# Altium footprint library SIGFOX-PCB-RULER.PcbLib: 49 footprints (part 3 of 4)
Each footprint in its own frame and in the unit in brackets; x right, y up, seen from the top. Pads: shape width x height; smd on the part's side, far side on the other; paste and mask are expansions set on the pad; w line width, h text height; cw(c..) or ccw(c..) is an arc to the next point about the centre after c.
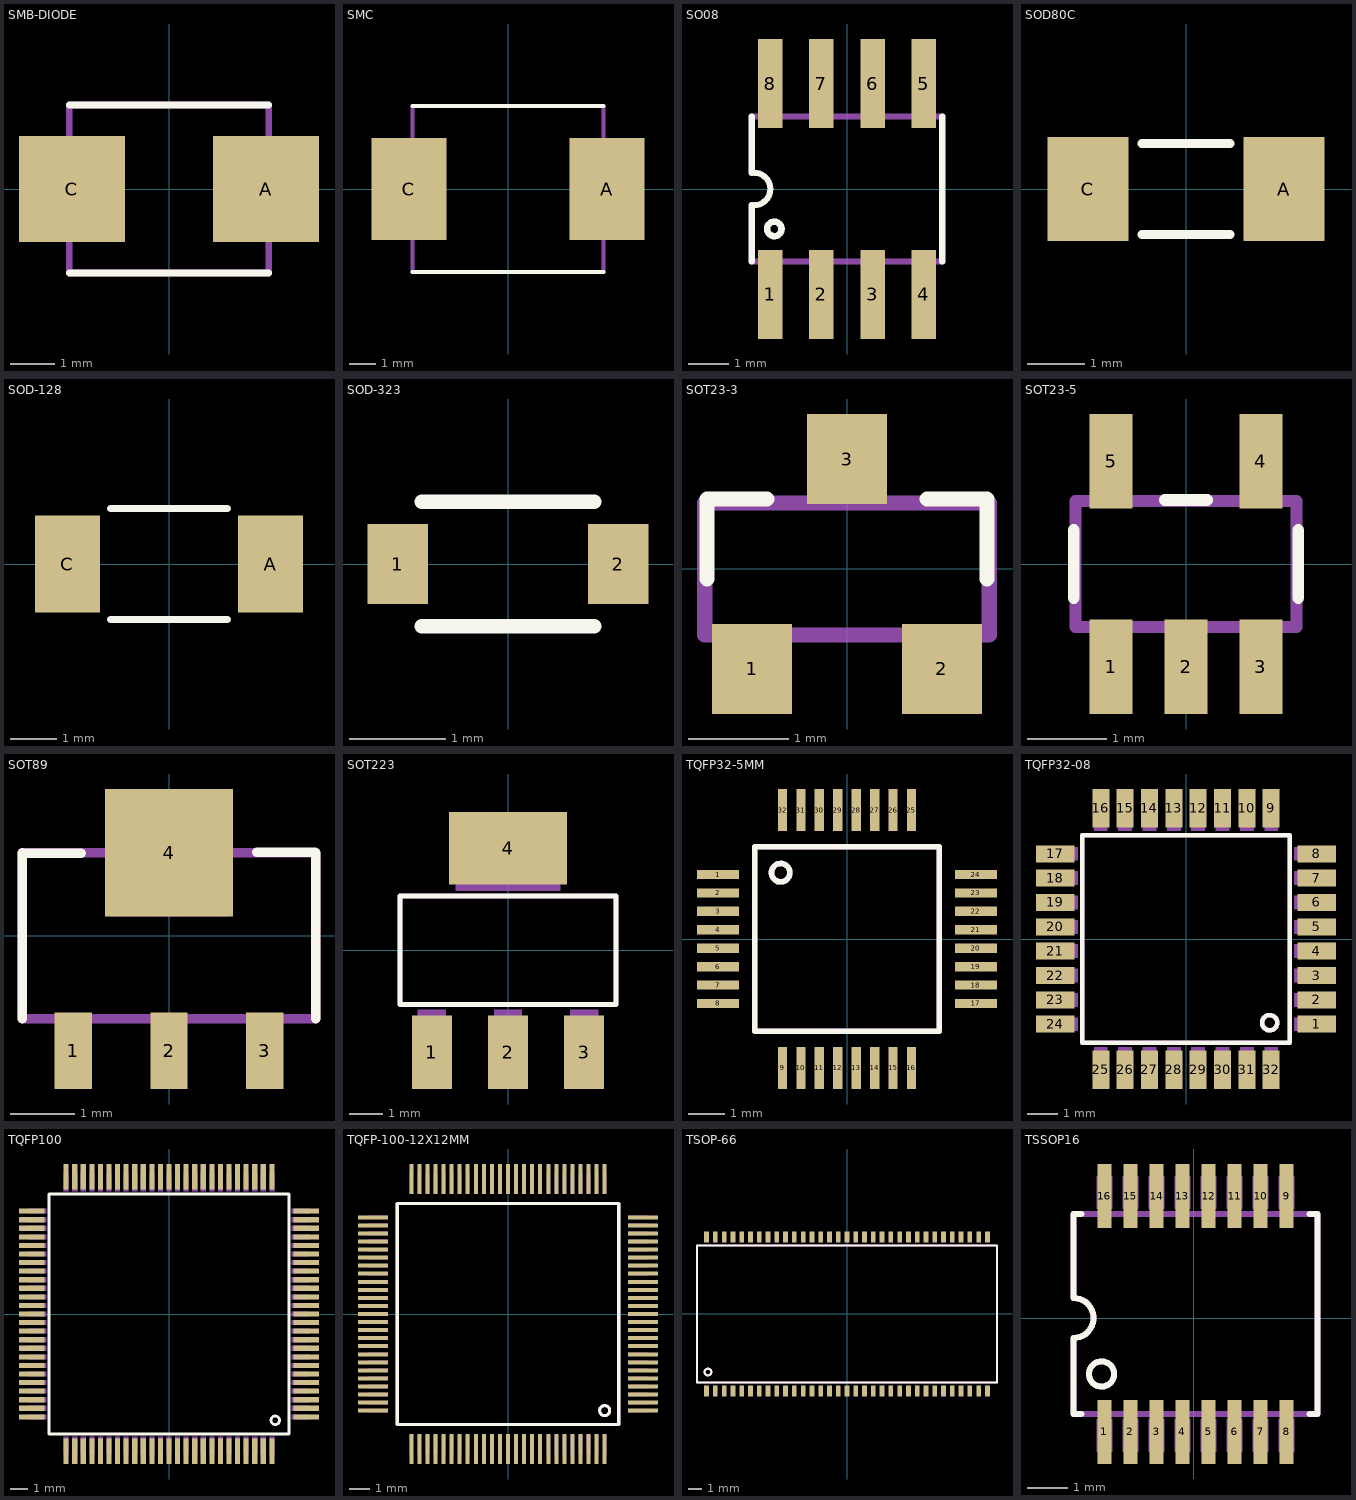
[diagram p2: the footprints below, top view; thin cyan lines are the x and y axes]

## SMB-DIODE [mm]
pads (2):
  rect 2.4x2.4 smd: A(2.2,0) C(-2.2,0)
Top Overlay:
  lines w0.152: -2.261,-1.905 2.261,-1.905 ; -2.261,1.905 2.261,1.905
Mechanical 13:
  rectangle: 2.261,-1.092 2.794,1.092
  rectangle: -2.794,-1.092 -2.261,1.092
  lines w0.152: -2.261,-1.905 2.261,-1.905 2.261,1.905 -2.261,1.905 -2.261,-1.905

## SMC [mm]
pads (2):
  rect 2.8x3.8 smd: A(3.7,0) C(-3.7,0)
Top Overlay:
  lines w0.152: -3.561,-3.105 3.561,-3.105 ; -3.561,3.105 3.561,3.105
Mechanical 13:
  rectangle: 3.561,-1.092 4.094,1.092
  rectangle: -4.094,-1.092 -3.561,1.092
  lines w0.152: -3.561,-3.105 3.561,-3.105 3.561,3.105 -3.561,3.105 -3.561,-3.105

## SO08 [mil]
pads (8):
  rect 24x87 smd: 1(-75,-103) 2(-25,-103) 3(25,-103) 4(75,-103) 5(75,103) 6(25,103) 7(-25,103) 8(-75,103)
Top Overlay:
  circle w6.3: c-71,-39 r7.09
  lines w5.91: -90.55,-15.75 ccw(c-90.55,0) -74.8,0 ccw(c-90.55,0) -90.55,15.75
  lines w6: -92.99,-70.98 -92.99,-15.63 ; -92.99,15.63 -92.99,70.98 ; 92.99,-70.98 92.99,70.98
Mechanical 13:
  rectangle: -82,-113 -68,-73
  rectangle: -32,-113 -18,-73
  rectangle: 18,-113 32,-73
  rectangle: 68,-113 82,-73
  rectangle: -82,73 -68,113
  rectangle: -32,73 -18,113
  rectangle: 18,73 32,113
  rectangle: 68,73 82,113
  lines w6: -92.99,-70.98 92.99,-70.98 ; -92.99,70.98 92.99,70.98

## SOD80C [mm]
pads (2):
  rect 1.4x1.8 smd: A(1.7,0) C(-1.7,0)
Top Overlay:
  lines w0.152: -0.762,-0.787 0.762,-0.787 ; -0.762,0.787 0.762,0.787

## SOD-128 [mm]
pads (2):
  rect 1.4x2.1 smd: A(2.2,0) C(-2.2,0)
Top Overlay:
  lines w0.152: -1.27,-1.2 1.27,-1.2 ; -1.27,1.2 1.27,1.2

## SOD-323 [mm]
pads (2):
  rect 0.63x0.83 smd: 1(-1.15,0) 2(1.15,0)
Top Overlay:
  lines w0.15: -0.9,-0.65 -0.5,-0.65 0.9,-0.65 ; -0.9,0.65 -0.5,0.65 0.9,0.65

## SOT23-3 [mm]
pads (3):
  rect 0.8x0.9 smd: 1(-0.95,-1) 2(0.95,-1) 3(0,1.1)
Top Overlay:
  lines w0.15: -1.4,-0.1 -1.4,0.7 -0.8,0.7 ; 0.8,0.7 1.4,0.7 1.4,-0.1
Mechanical 13:
  lines w0.152: -1.422,-0.66 -1.422,0.66 1.422,0.66 1.422,-0.66 -1.422,-0.66

## SOT23-5 [mm]
pads (5):
  rect 0.55x1.2 smd: 1(-0.95,-1.3) 2(0,-1.3) 3(0.95,-1.3) 4(0.95,1.3) 5(-0.95,1.3)
Top Overlay:
  lines w0.15: -1.422,-0.429 -1.422,0.429 ; -0.268,0.81 0.268,0.81 ; 1.422,-0.429 1.422,0.429
Mechanical 13:
  rectangle: -1.2,0.85 -0.7,1.5
  rectangle: 0.7,0.85 1.2,1.5
  rectangle: 0.7,-1.5 1.2,-0.85
  rectangle: -0.25,-1.5 0.25,-0.85
  rectangle: -1.2,-1.5 -0.7,-0.85
  lines w0.15: -1.4,-0.8 1.4,-0.8
  lines w0.152: -1.4,-0.8 -1.4,0.8 1.4,0.8 1.4,-0.8

## SOT89 [mm]
pads (4):
  rect 0.58x1.2 smd: 1(-1.5,-1.8) 2(0,-1.8) 3(1.5,-1.8)
  rect 2x2 smd: 4(0,1.3)
Top Overlay:
  lines w0.15: -2.3,-1.3 -2.3,1.3 ; -2.291,1.294 -1.372,1.294 ; 1.372,1.306 2.291,1.306 ; 2.3,-1.3 2.3,1.3
Mechanical 13:
  rectangle: -0.915,0.303 0.915,2.158
  rectangle: -1.74,-2.23 -1.26,-1.27
  rectangle: -0.24,-2.23 0.24,-1.27
  rectangle: 1.26,-2.23 1.74,-1.27
  lines w0.15: -2.3,-1.3 2.3,-1.3 ; -2.3,-1.3 -2.3,1.3 ; -2.3,-1.3 -2.3,1.3 ; -2.3,-1.3 2.3,-1.3 ; -2.3,-1.3 2.3,-1.3 ; -2.3,-1.3 -2.3,1.3 ; -2.3,1.3 2.3,1.3 ; -2.3,1.3 2.3,1.3 ; -2.3,1.3 2.3,1.3 ; 2.3,-1.3 2.3,1.3 ; 2.3,-1.3 2.3,1.3 ; 2.3,-1.3 2.3,1.3

## SOT223 [mil]
pads (4):
  rect 48x88 smd: 1(-91,-122) 2(0,-122) 3(91,-122)
  rect 141.73x86.61 smd: 4(0,122.01)
Top Overlay:
  lines w5.91: -129,-65 -129,65 129,65 129,-65 -129,-65
Mechanical 13:
  rectangle: -63,71 63,144
  rectangle: 74,-144 108,-71
  rectangle: -108,-144 -74,-71
  rectangle: -17,-144 17,-71
  lines w5.91: -129,-65 129,-65 129,65 -129,65 -129,-65

## TQFP32-5MM [mil]
pads (32):
  rect 45x10 smd: 1(-137.8,68.9) 2(-137.8,49.21) 3(-137.8,29.53) 4(-137.8,9.84) 5(-137.8,-9.84) 6(-137.8,-29.53) 7(-137.8,-49.21) 8(-137.8,-68.9) 17(137.8,-68.9) 18(137.8,-49.21) 19(137.8,-29.53) 20(137.8,-9.84) 21(137.8,9.84) 22(137.8,29.53) 23(137.8,49.21) 24(137.8,68.9)
  rect 10x45 smd: 9(-68.9,-137.79) 10(-49.21,-137.79) 11(-29.53,-137.79) 12(-9.84,-137.79) 13(9.84,-137.79) 14(29.53,-137.79) 15(49.21,-137.79) 16(68.9,-137.79) 25(68.9,137.79) 26(49.21,137.79) 27(29.53,137.79) 28(9.84,137.79) 29(-9.84,137.79) 30(-29.53,137.79) 31(-49.21,137.79) 32(-68.9,137.79)
Top Overlay:
  circle w5.91: c-70.87,70.87 r9.84
  lines w5.91: -98.43,-98.42 -98.43,98.42 ; -98.43,-98.42 98.43,-98.42 ; -98.43,-98.42 -98.43,98.42 ; -98.43,-98.42 98.43,-98.42 ; -98.43,98.42 98.43,98.42 ; -98.43,98.42 98.43,98.42 ; 98.43,-98.42 98.43,98.42 ; 98.43,-98.42 98.43,98.42
Mechanical 13:
  circle w5.91: c-70.87,70.87 r9.84
  lines w5.91: -98.43,-98.42 98.43,-98.42 ; -98.43,-98.42 -98.43,98.42 ; -98.43,-98.42 98.43,-98.42 ; -98.43,-98.42 -98.43,98.42 ; -98.43,98.42 98.43,98.42 ; -98.43,98.42 98.43,98.42 ; 98.43,-98.42 98.43,98.42 ; 98.43,-98.42 98.43,98.42

## TQFP32-08 [mil]
pads (32):
  rect 50x22 smd: 1(169,-110.24) 2(169,-78.74) 3(169,-47.24) 4(169,-15.75) 5(169,15.75) 6(169,47.24) 7(169,78.74) 8(169,110.24) 17(-169,110.24) 18(-169,78.74) 19(-169,47.24) 20(-169,15.75) 21(-169,-15.75) 22(-169,-47.24) 23(-169,-78.74) 24(-169,-110.24)
  rect 22x50 smd: 9(110.24,169) 10(78.74,169) 11(47.24,169) 12(15.75,169) 13(-15.75,169) 14(-47.24,169) 15(-78.74,169) 16(-110.24,169) 25(-110.24,-169) 26(-78.74,-169) 27(-47.24,-169) 28(-15.75,-169) 29(15.75,-169) 30(47.24,-169) 31(78.74,-169) 32(110.24,-169)
Top Overlay:
  circle w5.91: c108.27,-108.27 r9.84
  lines w5.91: -134.06,-134.06 -134.06,134.06 134.06,134.06 134.06,-134.06 -134.06,-134.06
Mechanical 13:
  circle w5.91: c108.27,-108.27 r9.84
  region: 119.24,-140 101.24,-140 101.24,-179 119.24,-179
  region: 87.74,-140 69.74,-140 69.74,-179 87.74,-179
  region: 56.24,-140 38.24,-140 38.24,-179 56.24,-179
  region: 24.75,-140 6.75,-140 6.75,-179 24.75,-179
  region: -6.75,-140 -24.75,-140 -24.75,-179 -6.75,-179
  region: -38.24,-140 -56.24,-140 -56.24,-179 -38.24,-179
  region: -69.74,-140 -87.74,-140 -87.74,-179 -69.74,-179
  region: -101.24,-140 -119.24,-140 -119.24,-179 -101.24,-179
  region: -140,-101.24 -179,-101.24 -179,-119.24 -140,-119.24
  region: -140,-69.74 -179,-69.74 -179,-87.74 -140,-87.74
  region: -140,-38.24 -179,-38.24 -179,-56.24 -140,-56.24
  region: -140,-6.75 -179,-6.75 -179,-24.75 -140,-24.75
  region: -140,24.75 -179,24.75 -179,6.75 -140,6.75
  region: -140,56.24 -179,56.24 -179,38.24 -140,38.24
  region: -140,87.74 -179,87.74 -179,69.74 -140,69.74
  region: -140,119.24 -179,119.24 -179,101.24 -140,101.24
  region: -101.24,179 -119.24,179 -119.24,140 -101.24,140
  region: -69.74,179 -87.74,179 -87.74,140 -69.74,140
  region: -38.24,179 -56.24,179 -56.24,140 -38.24,140
  region: -6.75,179 -24.75,179 -24.75,140 -6.75,140
  region: 24.75,179 6.75,179 6.75,140 24.75,140
  region: 56.24,179 38.24,179 38.24,140 56.24,140
  region: 87.74,179 69.74,179 69.74,140 87.74,140
  region: 119.24,179 101.24,179 101.24,140 119.24,140
  region: 179,119.24 140,119.24 140,101.24 179,101.24
  region: 179,87.74 140,87.74 140,69.74 179,69.74
  region: 179,56.24 140,56.24 140,38.24 179,38.24
  region: 179,24.75 140,24.75 140,6.75 179,6.75
  region: 179,-6.75 140,-6.75 140,-24.75 179,-24.75
  region: 179,-38.24 140,-38.24 140,-56.24 179,-56.24
  region: 179,-69.74 140,-69.74 140,-87.74 179,-87.74
  region: 179,-101.24 140,-101.24 140,-119.24 179,-119.24
  lines w5.91: -134.06,-134.06 134.06,-134.06 134.06,134.06 -134.06,134.06 -134.06,-134.06

## TQFP100 [mm]
pads (100):
  rect 1.5x0.3 smd: 1(8,-6) 2(8,-5.5) 3(8,-5) 4(8,-4.5) 5(8,-4) 6(8,-3.5) 7(8,-3) 8(8,-2.5) 9(8,-2) 10(8,-1.5) 11(8,-1) 12(8,-0.5) 13(8,0) 14(8,0.5) 15(8,1) 16(8,1.5) 17(8,2) 18(8,2.5) 19(8,3) 20(8,3.5) 21(8,4) 22(8,4.5) 23(8,5) 24(8,5.5) 25(8,6) 51(-8,6) 52(-8,5.5) 53(-8,5) 54(-8,4.5) 55(-8,4) 56(-8,3.5) 57(-8,3) 58(-8,2.5) 59(-8,2) 60(-8,1.5) 61(-8,1) 62(-8,0.5) 63(-8,0) 64(-8,-0.5) 65(-8,-1) 66(-8,-1.5) 67(-8,-2) 68(-8,-2.5) 69(-8,-3) 70(-8,-3.5) 71(-8,-4) 72(-8,-4.5) 73(-8,-5) 74(-8,-5.5) 75(-8,-6)
  rect 0.3x1.5 smd: 26(6,8) 27(5.5,8) 28(5,8) 29(4.5,8) 30(4,8) 31(3.5,8) 32(3,8) 33(2.5,8) 34(2,8) 35(1.5,8) 36(1,8) 37(0.5,8) 38(0,8) 39(-0.5,8) 40(-1,8) 41(-1.5,8) 42(-2,8) 43(-2.5,8) 44(-3,8) 45(-3.5,8) 46(-4,8) 47(-4.5,8) 48(-5,8) 49(-5.5,8) 50(-6,8) 76(-6,-8) 77(-5.5,-8) 78(-5,-8) 79(-4.5,-8) 80(-4,-8) 81(-3.5,-8) 82(-3,-8) 83(-2.5,-8) 84(-2,-8) 85(-1.5,-8) 86(-1,-8) 87(-0.5,-8) 88(0,-8) 89(0.5,-8) 90(1,-8) 91(1.5,-8) 92(2,-8) 93(2.5,-8) 94(3,-8) 95(3.5,-8) 96(4,-8) 97(4.5,-8) 98(5,-8) 99(5.5,-8) 100(6,-8)
Top Overlay:
  circle w0.15: c6.2,-6.2 r0.25
  circle w0.15: c6.2,-6.2 r0.25
  lines w0.15: -7,-7 -7,7 ; -7,-7 7,-7 ; -7,-7 7,-7 ; -7,-7 -7,7 ; -7,7 7,7 ; -7,7 7,7 ; 7,-7 7,7 ; 7,-7 7,7
Mechanical 13:
  region: 8.2,-5.85 7.15,-5.85 7.15,-6.15 8.2,-6.15
  region: 8.2,-5.35 7.15,-5.35 7.15,-5.65 8.2,-5.65
  region: 8.2,-4.85 7.15,-4.85 7.15,-5.15 8.2,-5.15
  region: 8.2,-4.35 7.15,-4.35 7.15,-4.65 8.2,-4.65
  region: 8.2,-3.85 7.15,-3.85 7.15,-4.15 8.2,-4.15
  region: 8.2,-3.35 7.15,-3.35 7.15,-3.65 8.2,-3.65
  region: 8.2,-2.85 7.15,-2.85 7.15,-3.15 8.2,-3.15
  region: 8.2,-2.35 7.15,-2.35 7.15,-2.65 8.2,-2.65
  region: 8.2,-1.85 7.15,-1.85 7.15,-2.15 8.2,-2.15
  region: 8.2,-1.35 7.15,-1.35 7.15,-1.65 8.2,-1.65
  region: 8.2,-0.85 7.15,-0.85 7.15,-1.15 8.2,-1.15
  region: 8.2,-0.35 7.15,-0.35 7.15,-0.65 8.2,-0.65
  region: 8.2,0.15 7.15,0.15 7.15,-0.15 8.2,-0.15
  region: 8.2,0.65 7.15,0.65 7.15,0.35 8.2,0.35
  region: 8.2,1.15 7.15,1.15 7.15,0.85 8.2,0.85
  region: 8.2,1.65 7.15,1.65 7.15,1.35 8.2,1.35
  region: 8.2,2.15 7.15,2.15 7.15,1.85 8.2,1.85
  region: 8.2,2.65 7.15,2.65 7.15,2.35 8.2,2.35
  region: 8.2,3.15 7.15,3.15 7.15,2.85 8.2,2.85
  region: 8.2,3.65 7.15,3.65 7.15,3.35 8.2,3.35
  region: 8.2,4.15 7.15,4.15 7.15,3.85 8.2,3.85
  region: 8.2,4.65 7.15,4.65 7.15,4.35 8.2,4.35
  region: 8.2,5.15 7.15,5.15 7.15,4.85 8.2,4.85
  region: 8.2,5.65 7.15,5.65 7.15,5.35 8.2,5.35
  region: 8.2,6.15 7.15,6.15 7.15,5.85 8.2,5.85
  region: 6.15,8.2 5.85,8.2 5.85,7.15 6.15,7.15
  region: 5.65,8.2 5.35,8.2 5.35,7.15 5.65,7.15
  region: 5.15,8.2 4.85,8.2 4.85,7.15 5.15,7.15
  region: 4.65,8.2 4.35,8.2 4.35,7.15 4.65,7.15
  region: 4.15,8.2 3.85,8.2 3.85,7.15 4.15,7.15
  region: 3.65,8.2 3.35,8.2 3.35,7.15 3.65,7.15
  region: 3.15,8.2 2.85,8.2 2.85,7.15 3.15,7.15
  region: 2.65,8.2 2.35,8.2 2.35,7.15 2.65,7.15
  region: 2.15,8.2 1.85,8.2 1.85,7.15 2.15,7.15
  region: 1.65,8.2 1.35,8.2 1.35,7.15 1.65,7.15
  region: 1.15,8.2 0.85,8.2 0.85,7.15 1.15,7.15
  region: 0.65,8.2 0.35,8.2 0.35,7.15 0.65,7.15
  region: 0.15,8.2 -0.15,8.2 -0.15,7.15 0.15,7.15
  region: -0.35,8.2 -0.65,8.2 -0.65,7.15 -0.35,7.15
  region: -0.85,8.2 -1.15,8.2 -1.15,7.15 -0.85,7.15
  region: -1.35,8.2 -1.65,8.2 -1.65,7.15 -1.35,7.15
  region: -1.85,8.2 -2.15,8.2 -2.15,7.15 -1.85,7.15
  region: -2.35,8.2 -2.65,8.2 -2.65,7.15 -2.35,7.15
  region: -2.85,8.2 -3.15,8.2 -3.15,7.15 -2.85,7.15
  region: -3.35,8.2 -3.65,8.2 -3.65,7.15 -3.35,7.15
  region: -3.85,8.2 -4.15,8.2 -4.15,7.15 -3.85,7.15
  region: -4.35,8.2 -4.65,8.2 -4.65,7.15 -4.35,7.15
  region: -4.85,8.2 -5.15,8.2 -5.15,7.15 -4.85,7.15
  region: -5.35,8.2 -5.65,8.2 -5.65,7.15 -5.35,7.15
  region: -5.85,8.2 -6.15,8.2 -6.15,7.15 -5.85,7.15
  region: -7.15,6.15 -8.2,6.15 -8.2,5.85 -7.15,5.85
  region: -7.15,5.65 -8.2,5.65 -8.2,5.35 -7.15,5.35
  region: -7.15,5.15 -8.2,5.15 -8.2,4.85 -7.15,4.85
  region: -7.15,4.65 -8.2,4.65 -8.2,4.35 -7.15,4.35
  region: -7.15,4.15 -8.2,4.15 -8.2,3.85 -7.15,3.85
  region: -7.15,3.65 -8.2,3.65 -8.2,3.35 -7.15,3.35
  region: -7.15,3.15 -8.2,3.15 -8.2,2.85 -7.15,2.85
  region: -7.15,2.65 -8.2,2.65 -8.2,2.35 -7.15,2.35
  region: -7.15,2.15 -8.2,2.15 -8.2,1.85 -7.15,1.85
  region: -7.15,1.65 -8.2,1.65 -8.2,1.35 -7.15,1.35
  region: -7.15,1.15 -8.2,1.15 -8.2,0.85 -7.15,0.85
  region: -7.15,0.65 -8.2,0.65 -8.2,0.35 -7.15,0.35
  region: -7.15,0.15 -8.2,0.15 -8.2,-0.15 -7.15,-0.15
  region: -7.15,-0.35 -8.2,-0.35 -8.2,-0.65 -7.15,-0.65
  region: -7.15,-0.85 -8.2,-0.85 -8.2,-1.15 -7.15,-1.15
  region: -7.15,-1.35 -8.2,-1.35 -8.2,-1.65 -7.15,-1.65
  region: -7.15,-1.85 -8.2,-1.85 -8.2,-2.15 -7.15,-2.15
  region: -7.15,-2.35 -8.2,-2.35 -8.2,-2.65 -7.15,-2.65
  region: -7.15,-2.85 -8.2,-2.85 -8.2,-3.15 -7.15,-3.15
  region: -7.15,-3.35 -8.2,-3.35 -8.2,-3.65 -7.15,-3.65
  region: -7.15,-3.85 -8.2,-3.85 -8.2,-4.15 -7.15,-4.15
  region: -7.15,-4.35 -8.2,-4.35 -8.2,-4.65 -7.15,-4.65
  region: -7.15,-4.85 -8.2,-4.85 -8.2,-5.15 -7.15,-5.15
  region: -7.15,-5.35 -8.2,-5.35 -8.2,-5.65 -7.15,-5.65
  region: -7.15,-5.85 -8.2,-5.85 -8.2,-6.15 -7.15,-6.15
  region: -5.85,-7.15 -6.15,-7.15 -6.15,-8.2 -5.85,-8.2
  region: -5.35,-7.15 -5.65,-7.15 -5.65,-8.2 -5.35,-8.2
  region: -4.85,-7.15 -5.15,-7.15 -5.15,-8.2 -4.85,-8.2
  region: -4.35,-7.15 -4.65,-7.15 -4.65,-8.2 -4.35,-8.2
  region: -3.85,-7.15 -4.15,-7.15 -4.15,-8.2 -3.85,-8.2
  region: -3.35,-7.15 -3.65,-7.15 -3.65,-8.2 -3.35,-8.2
  region: -2.85,-7.15 -3.15,-7.15 -3.15,-8.2 -2.85,-8.2
  region: -2.35,-7.15 -2.65,-7.15 -2.65,-8.2 -2.35,-8.2
  region: -1.85,-7.15 -2.15,-7.15 -2.15,-8.2 -1.85,-8.2
  region: -1.35,-7.15 -1.65,-7.15 -1.65,-8.2 -1.35,-8.2
  region: -0.85,-7.15 -1.15,-7.15 -1.15,-8.2 -0.85,-8.2
  region: -0.35,-7.15 -0.65,-7.15 -0.65,-8.2 -0.35,-8.2
  region: 0.15,-7.15 -0.15,-7.15 -0.15,-8.2 0.15,-8.2
  region: 0.65,-7.15 0.35,-7.15 0.35,-8.2 0.65,-8.2
  region: 1.15,-7.15 0.85,-7.15 0.85,-8.2 1.15,-8.2
  region: 1.65,-7.15 1.35,-7.15 1.35,-8.2 1.65,-8.2
  region: 2.15,-7.15 1.85,-7.15 1.85,-8.2 2.15,-8.2
  region: 2.65,-7.15 2.35,-7.15 2.35,-8.2 2.65,-8.2
  region: 3.15,-7.15 2.85,-7.15 2.85,-8.2 3.15,-8.2
  region: 3.65,-7.15 3.35,-7.15 3.35,-8.2 3.65,-8.2
  region: 4.15,-7.15 3.85,-7.15 3.85,-8.2 4.15,-8.2
  region: 4.65,-7.15 4.35,-7.15 4.35,-8.2 4.65,-8.2
  region: 5.15,-7.15 4.85,-7.15 4.85,-8.2 5.15,-8.2
  region: 5.65,-7.15 5.35,-7.15 5.35,-8.2 5.65,-8.2
  region: 6.15,-7.15 5.85,-7.15 5.85,-8.2 6.15,-8.2

## TQFP-100-12X12MM [mm]
pads (100):
  rect 1.5x0.2 smd: 1(6.7,-4.8) 2(6.7,-4.4) 3(6.7,-4) 4(6.7,-3.6) 5(6.7,-3.2) 6(6.7,-2.8) 7(6.7,-2.4) 8(6.7,-2) 9(6.7,-1.6) 10(6.7,-1.2) 11(6.7,-0.8) 12(6.7,-0.4) 13(6.7,0) 14(6.7,0.4) 15(6.7,0.8) 16(6.7,1.2) 17(6.7,1.6) 18(6.7,2) 19(6.7,2.4) 20(6.7,2.8) 21(6.7,3.2) 22(6.7,3.6) 23(6.7,4) 24(6.7,4.4) 25(6.7,4.8) 51(-6.7,4.8) 52(-6.7,4.4) 53(-6.7,4) 54(-6.7,3.6) 55(-6.7,3.2) 56(-6.7,2.8) 57(-6.7,2.4) 58(-6.7,2) 59(-6.7,1.6) 60(-6.7,1.2) 61(-6.7,0.8) 62(-6.7,0.4) 63(-6.7,0) 64(-6.7,-0.4) 65(-6.7,-0.8) 66(-6.7,-1.2) 67(-6.7,-1.6) 68(-6.7,-2) 69(-6.7,-2.4) 70(-6.7,-2.8) 71(-6.7,-3.2) 72(-6.7,-3.6) 73(-6.7,-4) 74(-6.7,-4.4) 75(-6.7,-4.8)
  rect 0.2x1.5 smd: 26(4.8,6.7) 27(4.4,6.7) 28(4,6.7) 29(3.6,6.7) 30(3.2,6.7) 31(2.8,6.7) 32(2.4,6.7) 33(2,6.7) 34(1.6,6.7) 35(1.2,6.7) 36(0.8,6.7) 37(0.4,6.7) 38(0,6.7) 39(-0.4,6.7) 40(-0.8,6.7) 41(-1.2,6.7) 42(-1.6,6.7) 43(-2,6.7) 44(-2.4,6.7) 45(-2.8,6.7) 46(-3.2,6.7) 47(-3.6,6.7) 48(-4,6.7) 49(-4.4,6.7) 50(-4.8,6.7) 76(-4.8,-6.7) 77(-4.4,-6.7) 78(-4,-6.7) 79(-3.6,-6.7) 80(-3.2,-6.7) 81(-2.8,-6.7) 82(-2.4,-6.7) 83(-2,-6.7) 84(-1.6,-6.7) 85(-1.2,-6.7) 86(-0.8,-6.7) 87(-0.4,-6.7) 88(0,-6.7) 89(0.4,-6.7) 90(0.8,-6.7) 91(1.2,-6.7) 92(1.6,-6.7) 93(2,-6.7) 94(2.4,-6.7) 95(2.8,-6.7) 96(3.2,-6.7) 97(3.6,-6.7) 98(4,-6.7) 99(4.4,-6.7) 100(4.8,-6.7)
Top Overlay:
  circle w0.15: c4.8,-4.8 r0.25
  lines w0.15: -5.5,-5.5 -5.5,5.5 5.5,5.5 5.5,-5.5 -5.5,-5.5
Mechanical 13:
  circle w0.15: c4.8,-4.8 r0.25
  region: 5.99,-4.71 5.99,-4.89 6.99,-4.89 6.99,-4.71
  region: 5.99,-4.31 5.99,-4.49 6.99,-4.49 6.99,-4.31
  region: 5.99,-3.91 5.99,-4.09 6.99,-4.09 6.99,-3.91
  region: 5.99,-3.51 5.99,-3.69 6.99,-3.69 6.99,-3.51
  region: 5.99,-3.11 5.99,-3.29 6.99,-3.29 6.99,-3.11
  region: 5.99,-2.71 5.99,-2.89 6.99,-2.89 6.99,-2.71
  region: 5.99,-2.31 5.99,-2.49 6.99,-2.49 6.99,-2.31
  region: 5.99,-1.91 5.99,-2.09 6.99,-2.09 6.99,-1.91
  region: 5.99,-1.51 5.99,-1.69 6.99,-1.69 6.99,-1.51
  region: 5.99,-1.11 5.99,-1.29 6.99,-1.29 6.99,-1.11
  region: 5.99,-0.71 5.99,-0.89 6.99,-0.89 6.99,-0.71
  region: 5.99,-0.31 5.99,-0.49 6.99,-0.49 6.99,-0.31
  region: 5.99,0.09 5.99,-0.09 6.99,-0.09 6.99,0.09
  region: 5.99,0.49 5.99,0.31 6.99,0.31 6.99,0.49
  region: 5.99,0.89 5.99,0.71 6.99,0.71 6.99,0.89
  region: 5.99,1.29 5.99,1.11 6.99,1.11 6.99,1.29
  region: 5.99,1.69 5.99,1.51 6.99,1.51 6.99,1.69
  region: 5.99,2.09 5.99,1.91 6.99,1.91 6.99,2.09
  region: 5.99,2.49 5.99,2.31 6.99,2.31 6.99,2.49
  region: 5.99,2.89 5.99,2.71 6.99,2.71 6.99,2.89
  region: 5.99,3.29 5.99,3.11 6.99,3.11 6.99,3.29
  region: 5.99,3.69 5.99,3.51 6.99,3.51 6.99,3.69
  region: 5.99,4.09 5.99,3.91 6.99,3.91 6.99,4.09
  region: 5.99,4.49 5.99,4.31 6.99,4.31 6.99,4.49
  region: 5.99,4.89 5.99,4.71 6.99,4.71 6.99,4.89
  rectangle: 4.71,5.99 4.89,6.99
  rectangle: 4.31,5.99 4.49,6.99
  rectangle: 3.91,5.99 4.09,6.99
  rectangle: 3.51,5.99 3.69,6.99
  rectangle: 3.11,5.99 3.29,6.99
  rectangle: 2.71,5.99 2.89,6.99
  rectangle: 2.31,5.99 2.49,6.99
  rectangle: 1.91,5.99 2.09,6.99
  rectangle: 1.51,5.99 1.69,6.99
  rectangle: 1.11,5.99 1.29,6.99
  rectangle: 0.71,5.99 0.89,6.99
  rectangle: 0.31,5.99 0.49,6.99
  rectangle: -0.09,5.99 0.09,6.99
  rectangle: -0.49,5.99 -0.31,6.99
  rectangle: -0.89,5.99 -0.71,6.99
  rectangle: -1.29,5.99 -1.11,6.99
  rectangle: -1.69,5.99 -1.51,6.99
  rectangle: -2.09,5.99 -1.91,6.99
  rectangle: -2.49,5.99 -2.31,6.99
  rectangle: -2.89,5.99 -2.71,6.99
  rectangle: -3.29,5.99 -3.11,6.99
  rectangle: -3.69,5.99 -3.51,6.99
  rectangle: -4.09,5.99 -3.91,6.99
  rectangle: -4.09,5.99 -3.91,6.99
  rectangle: -4.49,5.99 -4.31,6.99
  rectangle: -4.89,5.99 -4.71,6.99
  region: -5.99,4.71 -5.99,4.89 -6.99,4.89 -6.99,4.71
  region: -5.99,4.31 -5.99,4.49 -6.99,4.49 -6.99,4.31
  region: -5.99,3.91 -5.99,4.09 -6.99,4.09 -6.99,3.91
  region: -5.99,3.91 -5.99,4.09 -6.99,4.09 -6.99,3.91
  region: -5.99,3.51 -5.99,3.69 -6.99,3.69 -6.99,3.51
  region: -5.99,3.51 -5.99,3.69 -6.99,3.69 -6.99,3.51
  region: -5.99,3.11 -5.99,3.29 -6.99,3.29 -6.99,3.11
  region: -5.99,2.71 -5.99,2.89 -6.99,2.89 -6.99,2.71
  region: -5.99,2.31 -5.99,2.49 -6.99,2.49 -6.99,2.31
  region: -5.99,1.91 -5.99,2.09 -6.99,2.09 -6.99,1.91
  region: -5.99,1.51 -5.99,1.69 -6.99,1.69 -6.99,1.51
  region: -5.99,1.11 -5.99,1.29 -6.99,1.29 -6.99,1.11
  region: -5.99,0.71 -5.99,0.89 -6.99,0.89 -6.99,0.71
  region: -5.99,0.31 -5.99,0.49 -6.99,0.49 -6.99,0.31
  region: -5.99,-0.09 -5.99,0.09 -6.99,0.09 -6.99,-0.09
  region: -5.99,-0.49 -5.99,-0.31 -6.99,-0.31 -6.99,-0.49
  region: -5.99,-0.89 -5.99,-0.71 -6.99,-0.71 -6.99,-0.89
  region: -5.99,-1.29 -5.99,-1.11 -6.99,-1.11 -6.99,-1.29
  region: -5.99,-1.69 -5.99,-1.51 -6.99,-1.51 -6.99,-1.69
  region: -5.99,-2.09 -5.99,-1.91 -6.99,-1.91 -6.99,-2.09
  region: -5.99,-2.49 -5.99,-2.31 -6.99,-2.31 -6.99,-2.49
  region: -5.99,-2.89 -5.99,-2.71 -6.99,-2.71 -6.99,-2.89
  region: -5.99,-3.29 -5.99,-3.11 -6.99,-3.11 -6.99,-3.29
  region: -5.99,-3.69 -5.99,-3.51 -6.99,-3.51 -6.99,-3.69
  region: -5.99,-4.09 -5.99,-3.91 -6.99,-3.91 -6.99,-4.09
  region: -5.99,-4.49 -5.99,-4.31 -6.99,-4.31 -6.99,-4.49
  region: -5.99,-4.89 -5.99,-4.71 -6.99,-4.71 -6.99,-4.89
  region: -4.71,-5.99 -4.89,-5.99 -4.89,-6.99 -4.71,-6.99
  region: -4.31,-5.99 -4.49,-5.99 -4.49,-6.99 -4.31,-6.99
  region: -3.91,-5.99 -4.09,-5.99 -4.09,-6.99 -3.91,-6.99
  region: -3.51,-5.99 -3.69,-5.99 -3.69,-6.99 -3.51,-6.99
  region: -3.11,-5.99 -3.29,-5.99 -3.29,-6.99 -3.11,-6.99
  region: -2.71,-5.99 -2.89,-5.99 -2.89,-6.99 -2.71,-6.99
  region: -2.31,-5.99 -2.49,-5.99 -2.49,-6.99 -2.31,-6.99
  region: -1.91,-5.99 -2.09,-5.99 -2.09,-6.99 -1.91,-6.99
  region: -1.51,-5.99 -1.69,-5.99 -1.69,-6.99 -1.51,-6.99
  region: -1.11,-5.99 -1.29,-5.99 -1.29,-6.99 -1.11,-6.99
  region: -0.71,-5.99 -0.89,-5.99 -0.89,-6.99 -0.71,-6.99
  region: -0.31,-5.99 -0.49,-5.99 -0.49,-6.99 -0.31,-6.99
  region: 0.09,-5.99 -0.09,-5.99 -0.09,-6.99 0.09,-6.99
  region: 0.49,-5.99 0.31,-5.99 0.31,-6.99 0.49,-6.99
  region: 0.89,-5.99 0.71,-5.99 0.71,-6.99 0.89,-6.99
  region: 1.29,-5.99 1.11,-5.99 1.11,-6.99 1.29,-6.99
  region: 1.69,-5.99 1.51,-5.99 1.51,-6.99 1.69,-6.99
  region: 2.09,-5.99 1.91,-5.99 1.91,-6.99 2.09,-6.99
  region: 2.09,-5.99 1.91,-5.99 1.91,-6.99 2.09,-6.99
  region: 2.49,-5.99 2.31,-5.99 2.31,-6.99 2.49,-6.99
  region: 2.89,-5.99 2.71,-5.99 2.71,-6.99 2.89,-6.99
  region: 3.29,-5.99 3.11,-5.99 3.11,-6.99 3.29,-6.99
  region: 3.69,-5.99 3.51,-5.99 3.51,-6.99 3.69,-6.99
  region: 4.09,-5.99 3.91,-5.99 3.91,-6.99 4.09,-6.99
  region: 4.49,-5.99 4.31,-5.99 4.31,-6.99 4.49,-6.99
  region: 4.89,-5.99 4.71,-5.99 4.71,-6.99 4.89,-6.99
  lines w0.15: -5.5,-5.5 5.5,-5.5 5.5,5.5 -5.5,5.5 -5.5,-5.5

## TSOP-66 [mm]
pads (66):
  rect 0.35x0.8 smd: P$1(-10.4,-5.7) P$2(-9.75,-5.7) P$3(-9.1,-5.7) P$4(-8.45,-5.7) P$5(-7.8,-5.7) P$6(-7.15,-5.7) P$7(-6.5,-5.7) P$8(-5.85,-5.7) P$9(-5.2,-5.7) P$10(-4.55,-5.7) P$11(-3.9,-5.7) P$12(-3.25,-5.7) P$13(-2.6,-5.7) P$14(-1.95,-5.7) P$15(-1.3,-5.7) P$16(-0.65,-5.7) P$17(0,-5.7) P$18(0.65,-5.7) P$19(1.3,-5.7) P$20(1.95,-5.7) P$21(2.6,-5.7) P$22(3.25,-5.7) P$23(3.9,-5.7) P$24(4.55,-5.7) P$25(5.2,-5.7) P$26(5.85,-5.7) P$27(6.5,-5.7) P$28(7.15,-5.7) P$29(7.8,-5.7) P$30(8.45,-5.7) P$31(9.1,-5.7) P$32(9.75,-5.7) P$33(10.4,-5.7) P$34(10.4,5.7) P$35(9.75,5.7) P$36(9.1,5.7) P$37(8.45,5.7) P$38(7.8,5.7) P$39(7.15,5.7) P$40(6.5,5.7) P$41(5.85,5.7) P$42(5.2,5.7) P$43(4.55,5.7) P$44(3.9,5.7) P$45(3.25,5.7) P$46(2.6,5.7) P$47(1.95,5.7) P$48(1.3,5.7) P$49(0.65,5.7) P$50(0,5.7) P$51(-0.65,5.7) P$52(-1.3,5.7) P$53(-1.95,5.7) P$54(-2.6,5.7) P$55(-3.25,5.7) P$56(-3.9,5.7) P$57(-4.55,5.7) P$58(-5.2,5.7) P$59(-5.85,5.7) P$60(-6.5,5.7) P$61(-7.15,5.7) P$62(-7.8,5.7) P$63(-8.45,5.7) P$64(-9.1,5.7) P$65(-9.75,5.7) P$66(-10.4,5.7)
Top Overlay:
  circle w0.15: c-10.3,-4.3 r0.25
  lines w0.15: -11.11,-5.08 -11.11,5.08 11.11,5.08 11.11,-5.08 -11.11,-5.08
Mechanical 13:
  circle w0.15: c-10.3,-4.3 r0.25
  lines w0.15: -11.11,-5.08 11.11,-5.08 11.11,5.08 -11.11,5.08 -11.11,-5.08

## TSSOP16 [mm]
pads (16):
  rect 0.35x1.6 smd: 1(-2.225,-2.85) 2(-1.575,-2.85) 3(-0.925,-2.85) 4(-0.275,-2.85) 5(0.375,-2.85) 6(1.025,-2.85) 7(1.675,-2.85) 8(2.325,-2.85) 9(2.325,3.05) 10(1.675,3.05) 11(1.025,3.05) 12(0.375,3.05) 13(-0.275,3.05) 14(-0.925,3.05) 15(-1.575,3.05) 16(-2.225,3.05)
Top Overlay:
  circle w0.15: c-2.3,-1.4 r0.316
  lines w0.15: -2.8,-2.4 -3,-2.4 -3,-0.5 ccw(c-3,0) -3,0.5 -3,2.6 -2.8,2.6 ; 2.9,-2.4 3.1,-2.4 ; 2.9,2.6 3.1,2.6 ; 3.1,-2.4 3.1,2.6 ; 3.1,-2.4 3.1,2.6
Mechanical 13:
  circle w0.15: c-2.3,-1.4 r0.316
  rectangle: -2.425,2.73 -2.025,3.55
  rectangle: -1.775,2.73 -1.375,3.55
  rectangle: -1.125,2.73 -0.725,3.55
  rectangle: -0.475,2.73 -0.075,3.55
  rectangle: 0.175,2.73 0.575,3.55
  rectangle: 0.825,2.73 1.225,3.55
  rectangle: 1.475,2.73 1.875,3.55
  rectangle: 2.125,2.73 2.525,3.55
  rectangle: -2.425,2.73 -2.025,3.55
  rectangle: -1.775,2.73 -1.375,3.55
  rectangle: -1.125,2.73 -0.725,3.55
  rectangle: -0.475,2.73 -0.075,3.55
  rectangle: 0.175,2.73 0.575,3.55
  rectangle: 0.825,2.73 1.225,3.55
  rectangle: 1.475,2.73 1.875,3.55
  rectangle: 2.125,2.73 2.525,3.55
  rectangle: 2.125,-3.35 2.525,-2.53
  rectangle: 1.475,-3.35 1.875,-2.53
  rectangle: 0.825,-3.35 1.225,-2.53
  rectangle: 0.175,-3.35 0.575,-2.53
  rectangle: -0.475,-3.35 -0.075,-2.53
  rectangle: -1.125,-3.35 -0.725,-2.53
  rectangle: -1.775,-3.35 -1.375,-2.53
  rectangle: -2.425,-3.35 -2.025,-2.53
  rectangle: 2.125,-3.35 2.525,-2.53
  rectangle: 1.475,-3.35 1.875,-2.53
  rectangle: 0.825,-3.35 1.225,-2.53
  rectangle: 0.175,-3.35 0.575,-2.53
  rectangle: -0.475,-3.35 -0.075,-2.53
  rectangle: -1.125,-3.35 -0.725,-2.53
  rectangle: -1.775,-3.35 -1.375,-2.53
  rectangle: -2.425,-3.35 -2.025,-2.53
  lines w0.15: -2.8,-2.4 -3,-2.4 ; -2.8,2.6 -3,2.6 ; 2.9,-2.4 3.1,-2.4 ; 2.9,2.6 3.1,2.6 ; -3,-2.4 3.1,-2.4 ; -3,-2.4 -3,-0.5 ccw(c-3,0) -3,0.5 -3,2.6 ; -3,2.6 3.1,2.6 ; 3.1,-2.4 3.1,2.6 ; 3.1,-2.4 3.1,2.6